# EAGLE library part UTO-NBL-52A (library angrypig7_Library)
UTO-NBL-52A nRF52832 SoC module
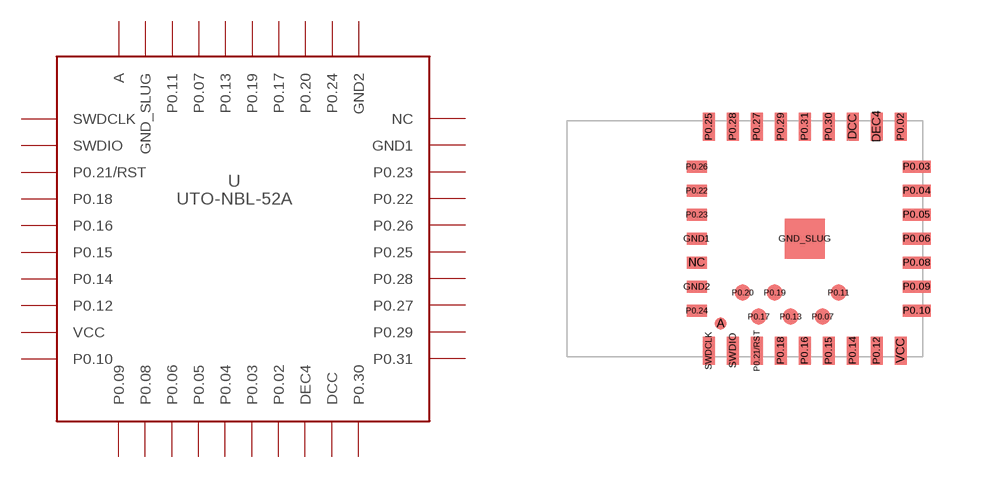
[diagram p5: symbol with the pads of UTO-NBL-52A; footprint UTO-NBL-52A]

Designator prefix U

## UTO-NBL-52A  [UTO-NBL-52A]
A  A
DCC  DCC
DEC4  DEC4
GND1  GND1
GND2  GND2
GND_SLUG  GND_SLUG
NC  NC
P0.02  P0.02
P0.03  P0.03
P0.04  P0.04
P0.05  P0.05
P0.06  P0.06
P0.07  P0.07
P0.08  P0.08
P0.09  P0.09
P0.10  P0.10
P0.11  P0.11
P0.12  P0.12
P0.13  P0.13
P0.14  P0.14
P0.15  P0.15
P0.16  P0.16
P0.17  P0.17
P0.18  P0.18
P0.19  P0.19
P0.20  P0.20
P0.21/RST  P0.21/RST
P0.22  P0.22
P0.23  P0.23
P0.24  P0.24
P0.25  P0.25
P0.26  P0.26
P0.27  P0.27
P0.28  P0.28
P0.29  P0.29
P0.30  P0.30
P0.31  P0.31
SWDCLK  SWDCLK
SWDIO  SWDIO
VCC  VCC

## Footprint UTO-NBL-52A (pad centres in mm)
smd 0.3 x 0.3: A -1.23,-2.535
smd 0.3 x 0.7: DCC 2.07,2.39; DEC4 2.67,2.39; P0.02 3.27,2.39; P0.12 2.67,-3.21; P0.14 2.07,-3.21; P0.15 1.47,-3.21; P0.16 0.87,-3.21; P0.18 0.27,-3.21; P0.21/RST -0.33,-3.21; P0.25 -1.53,2.39; P0.27 -0.33,2.39; P0.28 -0.93,2.39; P0.29 0.27,2.39; P0.30 1.47,2.39; P0.31 0.87,2.39; SWDCLK -1.53,-3.21; SWDIO -0.93,-3.21; VCC 3.27,-3.21
smd 0.5 x 0.3: GND1 -1.83,-0.41; GND2 -1.83,-1.61; NC -1.83,-1.01; P0.22 -1.83,0.79; P0.23 -1.83,0.19; P0.24 -1.83,-2.21; P0.26 -1.83,1.39
smd 1 x 1: GND_SLUG 0.87,-0.41
smd 0.7 x 0.3: P0.03 3.67,1.39; P0.04 3.67,0.79; P0.05 3.67,0.19; P0.06 3.67,-0.41; P0.08 3.67,-1.01; P0.09 3.67,-1.61; P0.10 3.67,-2.21
smd 0.4 x 0.4: P0.07 1.32,-2.36; P0.11 1.72,-1.76; P0.13 0.52,-2.36; P0.17 -0.28,-2.36; P0.19 0.12,-1.76; P0.20 -0.68,-1.76